# Altium schematic symbol library SCH - POWER - LINEAR VREG - TI TLV76750DRV.SchLib: 1 symbol
Pins are listed as number, name and electrical type; pins without a type are passive.

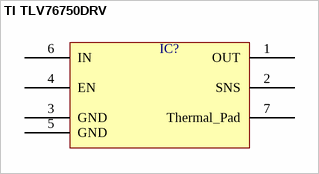
[diagram p0: symbol TI TLV76750DRV]

## TI TLV76750DRV
designator IC?  (value not drawn)
pins: 1 OUT, 2 SNS, 3 GND, 4 EN, 5 GND, 6 IN, 7 Thermal_Pad